# EAGLE library part H1102FNL (library pulse)
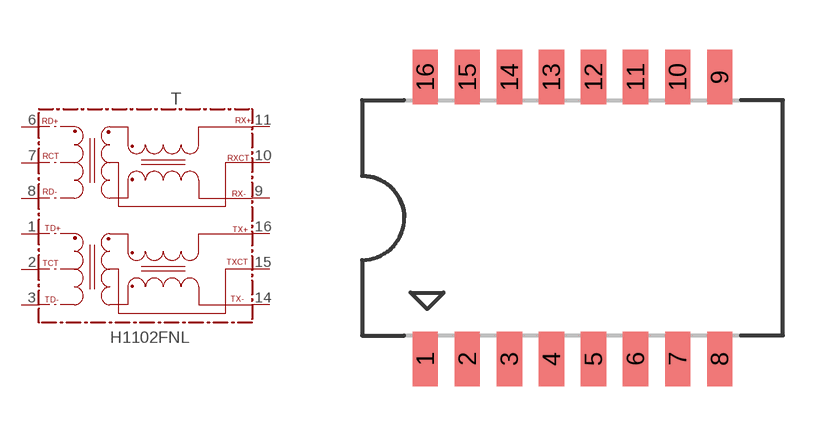
[diagram p0: symbol with the pads of HXXXX; footprint HXXXX]

Designator prefix T

## H1102FNL  [HXXXX]
1  TD+
2  TCT
3  TD-
6  RD+
7  RCT
8  RD-
9  RX-
10  RXCT
11  RX+
14  TX-
15  TXCT
16  TX+

## Footprint HXXXX (pad centres in mm)
MAX Height=5.969 mm
smd 0.762 x 1.651: 1 -4.445,-4.255; 2 -3.175,-4.255; 3 -1.905,-4.255; 4 -0.635,-4.255; 5 0.635,-4.255; 6 1.905,-4.255; 7 3.175,-4.255; 8 4.445,-4.255; 9 4.445,4.255; 10 3.175,4.255; 11 1.905,4.255; 12 0.635,4.255; 13 -0.635,4.255; 14 -1.905,4.255; 15 -3.175,4.255; 16 -4.445,4.255